# EAGLE library part MPU-9250 (library Sensor)
IMU ACCEL/GYRO/MAG I2C/SPI 24QFN Manufacturer's datasheet <https://media.digikey.com/pdf/Data%20Sheets/TDK%20PDFs/MPU-9250_Rev_1.1.pdf>
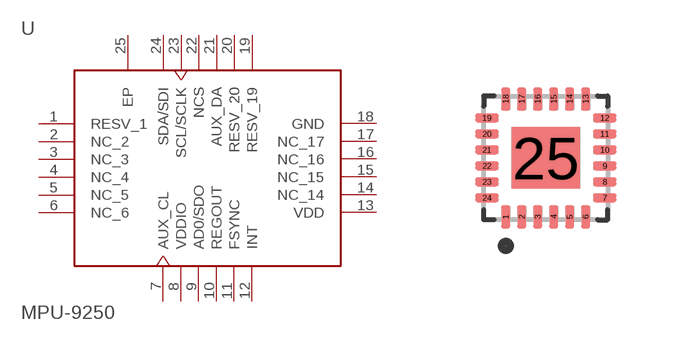
[diagram p10: symbol with the pads of 24-QFN; footprint 24-QFN]

Designator prefix U

## MPU-9250 (CREATED_BY: PCBLayout.com; DIGIKEY_PART_NUMBER: 1428-1019-1-ND; MANUFACTURER: TDK InvenSense; MPN: MPU-9250; PACKAGE: QFN-24)  [24-QFN]
1  RESV_1  pas
2  NC_2  pas
3  NC_3  pas
4  NC_4  pas
5  NC_5  pas
6  NC_6  pas
7  AUX_CL
8  VDDIO  pwr
9  AD0/SDO
10  REGOUT  out
11  FSYNC  in
12  INT  out
13  VDD  pwr
14  NC_14  pas
15  NC_15  pas
16  NC_16  pas
17  NC_17  pas
18  GND  pwr
19  RESV_19  pas
20  RESV_20  pas
21  AUX_DA
22  NCS
23  SCL/SCLK
24  SDA/SDI
25  EP  pwr

## Footprint 24-QFN (pad centres in mm)
Quad Flat No-Lead (QFN with Tab), 0.40 mm pitch; square, 6 pin X 6 pin, 3.00 mm L X 3.00 mm W X 1.05 mm H body PCB Libraries Packages
smd 0.22 x 0.58: 1 -1,-1.475; 2 -0.6,-1.475; 3 -0.2,-1.475; 4 0.2,-1.475; 5 0.6,-1.475; 6 1,-1.475; 13 1,1.475; 14 0.6,1.475; 15 0.2,1.475; 16 -0.2,1.475; 17 -0.6,1.475; 18 -1,1.475
smd 0.58 x 0.22: 7 1.475,-1; 8 1.475,-0.6; 9 1.475,-0.2; 10 1.475,0.2; 11 1.475,0.6; 12 1.475,1; 19 -1.475,1; 20 -1.475,0.6; 21 -1.475,0.2; 22 -1.475,-0.2; 23 -1.475,-0.6; 24 -1.475,-1
smd 1.7 x 1.54: 25 0,0